# Altium footprint library misc rlc.PcbLib: 1 footprints
Each footprint in its own frame and in the unit in brackets; x right, y up, seen from the top. Pads: shape width x height; smd on the part's side, far side on the other; paste and mask are expansions set on the pad; w line width, h text height; cw(c..) or ccw(c..) is an arc to the next point about the centre after c.
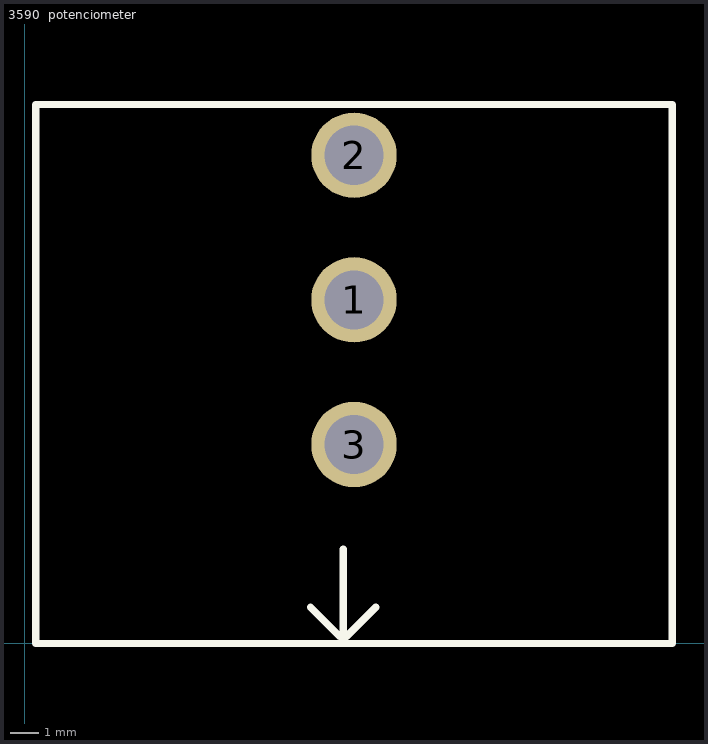
[diagram p0: the footprint, top view; thin cyan lines are the x and y axes]

## 3590  potenciometer [mm] "3590 multiturn precise potenciometer"
height 22
pads (3):
  round 3 hole 2.08: 1(11.557,12.065) 2(11.557,17.145) 3(11.557,6.985)
Top Overlay:
  lines w0.254: 10.033,1.27 11.049,0.254 ; 11.176,3.302 11.176,0.381 11.049,0.254 ; 12.319,1.27 11.303,0.254 11.049,0.254 ; 0.381,0 0.381,18.923 22.733,18.923 22.733,0 0.381,0
3D body: height 23.3, standoff -3.11, extent 0.257,-21.255 22.857,19.145